# Altium integrated library ICs_DACs.IntLib: 2 symbols
Pins are listed as number, name and electrical type; pins without a type are passive.

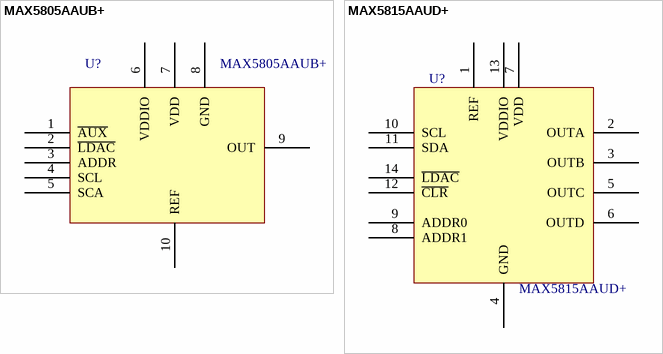
[diagram p0: symbols MAX5805AAUB+ to MAX5815AAUD+]

## MAX5805AAUB+
designator U?
IC DAC 12BIT SPI 10UMAX; Manufacturer: Maxim Integrated; Settling Time: 6.3µs; Number of Bits: 12; Data Interface: I²C, Serial; Number of Converters: 1; Voltage Supply Source: Analog and Digital; Number of Outputs and Type: 1 Voltage, Unipolar; 1 Voltage, Bipolar; Supplier 1: Digi-Key; Manufacturer Part Number: MAX5805AAUB+; RoHS: RoHS Compliant; Category: Integrated Circuits (ICs); Stock 1: 91; Pricing 1: 1=3.96, 10=3.762, 25=2.64, 50=2.508, 100=1.91, 250=1.81452, 500=1.683 (USD); Packaging: Tube; Operating Temperature: -40°C ~ 125°C; Mounting Type: Surface Mount; Package / Case: 10-TFSOP, 10-MSOP (0.118", 3.00mm Width); Supplier Device Package: 10-uMAX; Sampling Rate (Per Second): -; ComponentLink1URL: http://datasheets.maximintegrated.com/en/ds/MAX5803-MAX5805.pdf; ComponentLink1Description: http://datasheets.maximintegrated.com/en/ds/MAX5803-MAX5805.pdf; Supplier Part Number 1: MAX5805AAUB+-ND
footprint UMAX10 (Shrink Small Outline; 10 Leads; Body Width 3 mm; Pitch 0.5 mm)
pins: 1 ~{AUX}, 2 ~{LDAC}, 3 ADDR, 4 SCL, 5 SCA, 6 VDDIO, 7 VDD, 8 GND, 9 OUT, 10 REF

## MAX5815AAUD+
designator U?
IC DAC 12BIT SRL 4CH 14TSSOP; Manufacturer: Maxim Integrated; Settling Time: 4.5µs; Number of Bits: 12; Data Interface: I²C, Serial; Number of Converters: 4; Voltage Supply Source: Analog and Digital; Number of Outputs and Type: 4 Voltage, Unipolar; Supplier 1: Digi-Key; Manufacturer Part Number: MAX5815AAUD+; RoHS: RoHS Compliant; Category: Integrated Circuits (ICs); Stock 1: 27; Pricing 1: 1=11.88, 10=11.286, 25=7.92, 50=7.524, 100=5.74, 250=5.453, 500=5.049 (USD); Packaging: Tube; Operating Temperature: -40°C ~ 125°C; Mounting Type: Surface Mount; Package / Case: 14-TSSOP (0.173", 4.40mm Width); Supplier Device Package: 14-TSSOP; Sampling Rate (Per Second): -; ComponentLink1URL: http://datasheets.maximintegrated.com/en/ds/MAX5813-MAX5815.pdf; ComponentLink1Description: http://datasheets.maximintegrated.com/en/ds/MAX5813-MAX5815.pdf; Supplier Part Number 1: MAX5815AAUD+-ND
footprint TSSOP-14
pins: 1 REF, 2 OUTA, 3 OUTB, 4 GND, 5 OUTC, 6 OUTD, 7 VDD, 8 ADDR1, 9 ADDR0, 10 SCL, 11 SDA, 12 ~{CLR}, 13 VDDIO, 14 ~{LDAC}